# EAGLE library part B22AP (library B22AP)
Toggle Switches DPDT ON-NONE-ON .394 BAT STRAIGHT PC Source: Datasheet <https://www.digikey.ph/en/products/detail/nkk-switches/B22AP/379102?srsltid=AfmBOoq2ffh3TUAnDNiZJlaVxYCDEPLtTEJlIOaBAa2Y6mNiDAISLYZb>
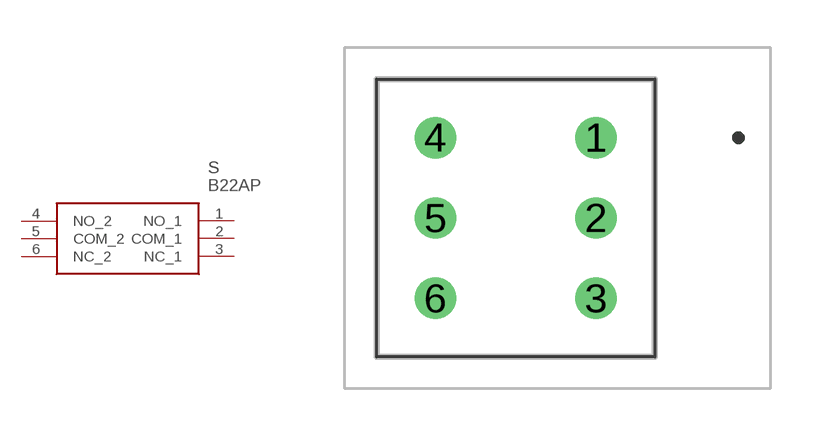
[diagram p0: symbol with the pads of B22AP; footprint B22AP]

Designator prefix S

## B22AP (Description: Toggle Switches DPDT ON-NONE-ON .394 BAT STRAIGHT PC; Height: 23.1mm; Manufacturer_Name: NKK Switches; Manufacturer_Part_Number: B22AP; Mouser_Part_Number: 633-B22AP; Mouser_Price-Stock: https://www.mouser.co.uk/ProductDetail/NKK-Switches/B22AP?qs=j%2Fw1qMK5FF4ADLD4OYx5DQ%3D%3D)  [B22AP]
1  NO_1
2  COM_1
3  NC_1
4  NO_2
5  COM_2
6  NC_2

## Footprint B22AP (pad centres in mm)
B22AP-3
drill 0.8 pad 1.3: 1 0,0; 2 0,-2.54; 3 0,-5.08; 4 -5.08,0; 5 -5.08,-2.54; 6 -5.08,-5.08